# EAGLE library part MBED-SHIELD (library template)
Arduino UNO R2的symbol,Seeeduino的定位孔，Arduino MEGA的外形
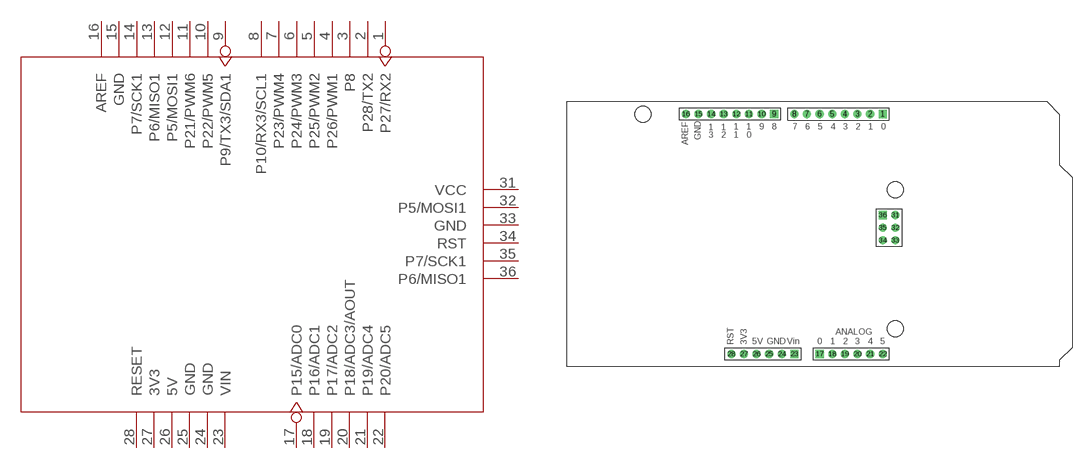
[diagram p12: symbol with the pads of MBED_SHIELD; footprint MBED_SHIELD]

Designator prefix U

## MBED-SHIELD  [MBED_SHIELD]
1  P27/RX2
2  P28/TX2
3  P8
4  P26/PWM1
5  P25/PWM2
6  P24/PWM3
7  P23/PWM4
8  P10/RX3/SCL1
9  P9/TX3/SDA1
10  P22/PWM5
11  P21/PWM6
12  P5/MOSI1
13  P6/MISO1
14  P7/SCK1
15  GND
16  AREF
17  P15/ADC0
18  P16/ADC1
19  P17/ADC2
20  P18/ADC3/AOUT
21  P19/ADC4
22  P20/ADC5
23  VIN
24  GND
25  GND
26  5V
27  3V3
28  RESET
31  VCC
32  P5/MOSI1
33  GND
34  RST
35  P7/SCK1
36  P6/MISO1

## Footprint MBED_SHIELD (pad centres in mm)
drill 0.889 pad 1.651 square: 1 63.5,50.8; 9 41.656,50.8; 17 50.8,2.54; 23 45.72,2.54; 36 63.5,30.48
drill 0.889 pad 1.651: 2 60.96,50.8; 3 58.42,50.8; 4 55.88,50.8; 5 53.34,50.8; 6 50.8,50.8; 7 48.26,50.8; 8 45.72,50.8; 10 39.116,50.8; 11 36.576,50.8; 12 34.036,50.8; 13 31.496,50.8; 14 28.956,50.8; 15 26.416,50.8; 16 23.876,50.8; 18 53.34,2.54; 19 55.88,2.54; 20 58.42,2.54; 21 60.96,2.54; 22 63.5,2.54; 24 43.18,2.54; 25 40.64,2.54; 26 38.1,2.54; 27 35.56,2.54; 28 33.02,2.54; 31 66.04,30.48; 32 66.04,27.94; 33 66.04,25.4; 34 63.5,25.4; 35 63.5,27.94
hole 3.2 at 15.24,50.8
hole 3.2 at 66.04,35.56
hole 3.2 at 66.04,7.62